# EAGLE library part R4-SHIELD (library Wemos-D1-Modifed-Imam)
Wemos R3 Uno Referensi: Element14 - Arduino UNO / Eagle_Lbr: E14_Arduino_revB.lbr Imam Syuhada / imam.sy11@gmail.com Bantul: 16.November.2017;For Mertani
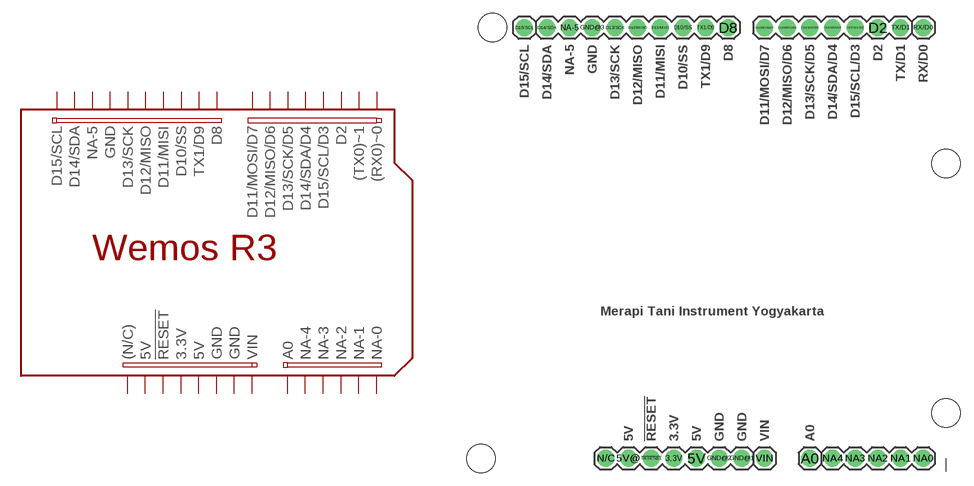
[diagram p0: symbol with the pads of R4-SHIELD; footprint R4-SHIELD]

Designator prefix PCB

## R4-SHIELDIMAM  [R4-SHIELD]
3.3V  3.3V  pas
5V  5V  pas
5V@  5V  pas
!RESET@1  !RESET  pas
A0  A0  pas
D2  D2  pas
D8  D8  pas
D10/SS  D10/SS  pas
D11/MISI  D11/MISI  pas
D11/MOSI/D7  D11/MOSI/D7  pas
D12/MISO  D12/MISO  pas
D12/MISO/D6  D12/MISO/D6  pas
D13/SCK  D13/SCK  pas
D13/SCK/D5  D13/SCK/D5  pas
D14/SDA  D14/SDA  pas
D14/SDA/D4  D14/SDA/D4  pas
D15/SCL  D15/SCL  pas
D15/SCL/D3  D15/SCL/D3  pas
GND@1  GND  pas
GND@2  GND  pas
GND@3  GND  pas
N/C  (N/C)  pas
NA0  NA-0  pas
NA1  NA-1  pas
NA2  NA-2  pas
NA3  NA-3  pas
NA4  NA-4  pas
NA-5  NA-5  pas
RX/D0  (RX0)~0  pas
TX1/D9  TX1/D9  pas
TX/D1  (TX0)~1  pas
VIN  VIN  pas

## Footprint R4-SHIELD (pad centres in mm)
Wemos R3 Uno Referensi: Element14 - Arduino UNO / Eagle_Lbr: E14_Arduino_revB.lbr Imam Syuhada / imam.sy11@gmail.com Bantul: 16.November.2017;For Mertani
drill 1.016 pad 1.88: 3.3V -2.54,-22.86; 5V 0,-22.86; 5V@ -7.62,-22.86; !RESET@1 -5.08,-22.86; A0 12.7,-22.86; D2 20.32,25.4; D8 3.556,25.4; D10/SS -1.524,25.4; D11/MISI -4.064,25.4; D11/MOSI/D7 7.62,25.4; D12/MISO -6.604,25.4; D12/MISO/D6 10.16,25.4; D13/SCK -9.144,25.4; D13/SCK/D5 12.7,25.4; D14/SDA -16.764,25.4; D14/SDA/D4 15.24,25.4; D15/SCL -19.304,25.4; D15/SCL/D3 17.78,25.4; GND@1 5.08,-22.86; GND@2 2.54,-22.86; GND@3 -11.684,25.4; N/C -10.16,-22.86; NA0 25.4,-22.86; NA1 22.86,-22.86; NA2 20.32,-22.86; NA3 17.78,-22.86; NA4 15.24,-22.86; NA-5 -14.224,25.4; RX/D0 25.4,25.4; TX1/D9 1.016,25.4; TX/D1 22.86,25.4; VIN 7.62,-22.86
hole 3.2 at 27.94,-17.78
hole 3.2 at 27.94,10.16
hole 3.2 at -22.86,25.4
hole 3.2 at -24.13,-22.86